# Altium integrated library CI.IntLib: 12 symbols
Pins are listed as number, name and electrical type; pins without a type are passive.

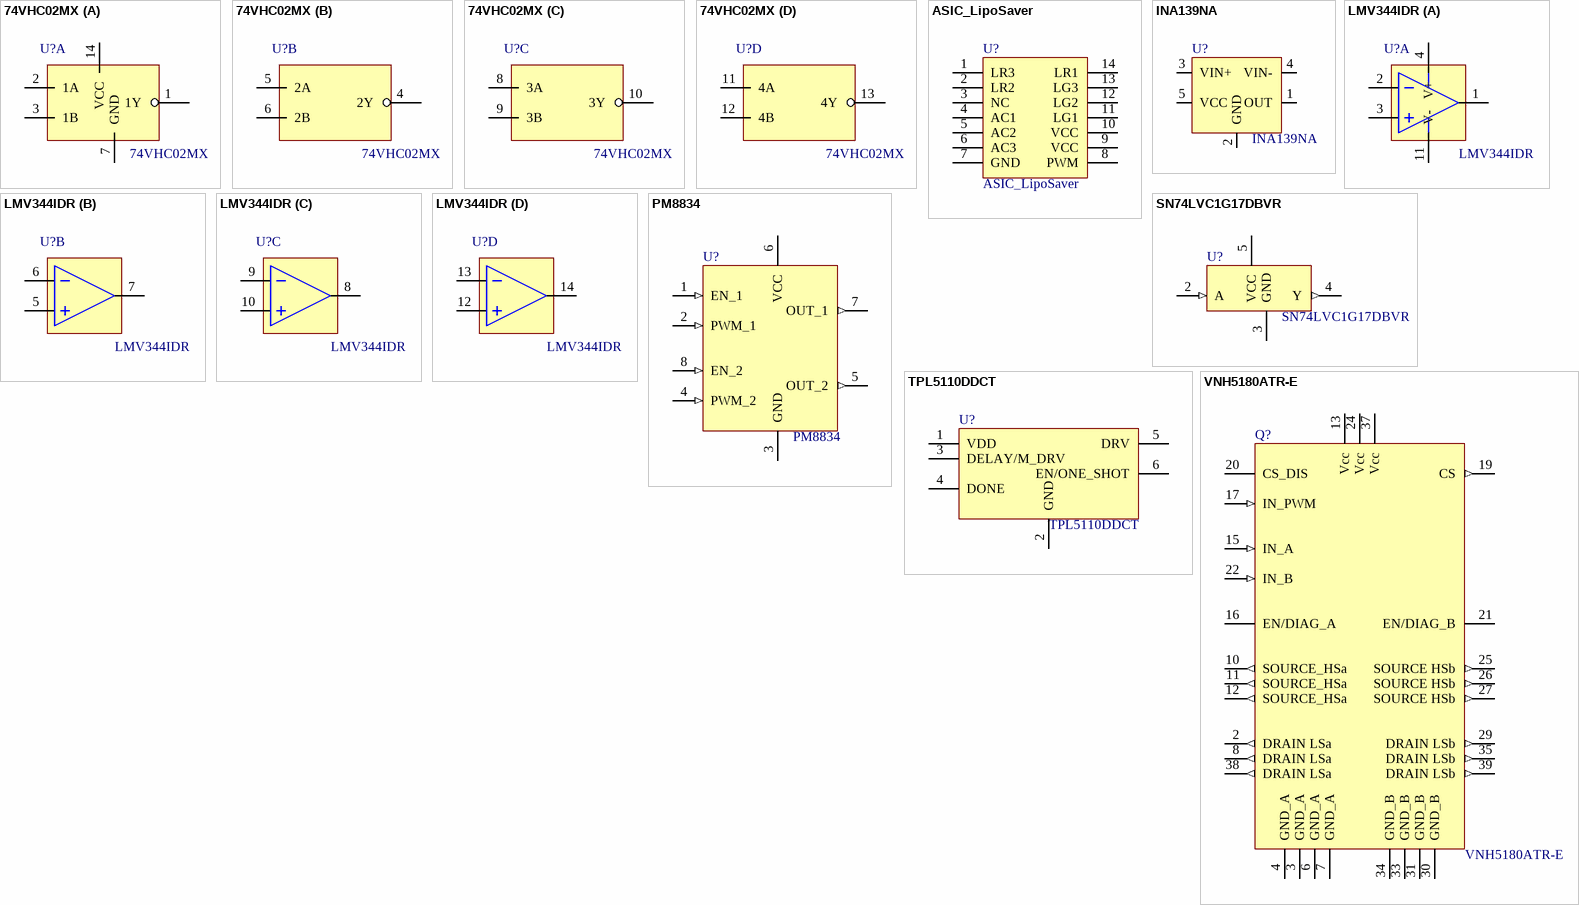
[diagram p0: symbols 74VHC02MX to VNH5180ATR-E]

## 74VHC02MX
designator U?
IC GATE NOR 4CH 2-INP 14SOIC; Manufacturer: ONSEMI; ComponentLink1URL: https://www.onsemi.com/pdf/datasheet/74vhc02-d.pdf; ComponentLink1Description: Datasheet; Manufacturer Part Number: 74VHC02MX; Supplier 1: Farnell; Supplier Part Number 1: 2453074; Supplier 2: JLCPCB; Supplier Part Number 2: C238963
footprint SOIC127P600X175-14N (SOIC, 14-Leads, Body 8,62x3,90mm, Pitch 1,27mm, IPC Medium Density)
part A pins: 1 1Y, 2 1A, 3 1B, 7 GND, 14 VCC
part B pins: 4 2Y, 5 2A, 6 2B
part C pins: 8 3A, 9 3B, 10 3Y
part D pins: 11 4A, 12 4B, 13 4Y

## ASIC_LipoSaver
designator U?
Specific IC for Lipo Saver (extracted; Manufacturer: LipoSaver; ComponentLink1URL: https://www.onsemi.com/pdf/datasheet/74vhc02-d.pdf; ComponentLink1Description: Datasheet; Manufacturer Part Number: ASIC_LipoSaver
footprint SOIC127P600X175-14N (SOIC, 14-Leads, Body 8,62x3,90mm, Pitch 1,27mm, IPC Medium Density)
pins: 1 LR3, 2 LR2, 3 NC, 4 AC1, 5 AC2, 6 AC3, 7 GND, 8 PWM, 9 VCC, 10 VCC, 11 LG1, 12 LG2, 13 LG3, 14 LR1

## INA139NA
designator U?
IC CURRENT MONITOR 0.5% SOT23-5; Manufacturer: Texas Instruments; Manufacturer Part Number: INA139NA; ComponentLink1URL: http://www.ti.com/lit/ds/symlink/ina139.pdf; ComponentLink1Description: Datasheet; Supplier 1: Farnell; Supplier Part Number 1: 3118123
footprint SOT23_95P280X145-5N (SOT23, 5-Leads, Body 3,1x3,2mm (max), Pitch 0,95mm, IPC Medium Densit)
pins: 1 OUT, 2 GND, 3 VIN+, 4 VIN-, 5 VCC

## LMV344IDR
designator U?
IC OPAMP GP 4 CIRCUIT 14SOIC; Manufacturer: TEXAS INSTRUMENTS; ComponentLink1URL: https://www.ti.com/lit/ds/symlink/lmv341.pdf; ComponentLink1Description: Datasheet; Manufacturer Part Number: LMV344IDR; Supplier 1: Farnell; Supplier Part Number 1: 3117230; Supplier 2: JLCPCB; Supplier Part Number 2: C181501
footprint SOIC127P600X175-14N (SOIC, 14-Leads, Body 8,62x3,90mm, Pitch 1,27mm, IPC Medium Density)
part A pins: 1 1OUT, 2 1IN-, 3 1IN+, 4 V+, 11 V-
part B pins: 5 2IN+, 6 2IN-, 7 2OUT
part C pins: 8 3OUT, 9 3IN-, 10 3IN+
part D pins: 12 4IN+, 13 4IN-, 14 4OUT

## PM8834
designator U?
IC MOSFET DVR 4A DUAL 8SOIC; Manufacturer: STMicroelectronics; ComponentLink1URL: http://www.st.com/content/ccc/resource/technical/document/datasheet/9a/22/3e/55/d3/f8/46/d5/CD00212712.pdf/files/CD00212712.pdf/jcr:content/translations/en.CD00212712.pdf; ComponentLink1Description: Datasheet; Manufacturer Part Number: PM8834; Supplier 1: Farnell; Supplier Part Number 1: 3129744
footprint SOIC127P600X175-8N (SOIC, 8-Leads, Body 4,90x3,90mm, Pitch 1,27mm, IPC Medium Density)
pins: 1 EN_1 (in), 2 PWM_1 (in), 3 GND (power), 4 PWM_2 (in), 5 OUT_2 (out), 6 VCC (power), 7 OUT_1 (out), 8 EN_2 (in)

## SN74LVC1G17DBVR
designator U?
IC BUF NON-INVERT 5.5V SOT23-5; Manufacturer: TEXAS INSTRUMENTS; ComponentLink1URL: https://www.ti.com/lit/ds/symlink/sn74lvc1g17.pdf?ts=1590614797325; ComponentLink1Description: Datasheet; Manufacturer Part Number: SN74LVC1G17DBVR; Supplier 1: Farnell; Supplier Part Number 1: 3119606
footprint SOT23_95P280X145-5N (SOT23, 5-Leads, Body 3,1x3,2mm (max), Pitch 0,95mm, IPC Medium Densit)
pins: 1 NC hidden, 2 A (in), 3 GND (power), 4 Y (out), 5 VCC (power)

## TPL5110DDCT
designator U?
IC OSC PROG TIMER TSOT23-6; Manufacturer: TEXAS INSTRUMENTS; ComponentLink1URL: https://www.ti.com/lit/ds/symlink/tpl5110.pdf; ComponentLink1Description: Datasheet; Manufacturer Part Number: TPL5110DDCT; Supplier 1: Farnell; Supplier Part Number 1: 3121221; Supplier 2: LCSC; Supplier Part Number 2: C125830
footprint SOT23_95P280X145-6N (SOT23, 6-Leads, Body 3,1x3,2mm (max), Pitch 0,95mm, IPC Medium Densit)
pins: 1 VDD, 2 GND, 3 DELAY/M_DRV, 4 DONE, 5 DRV, 6 EN/ONE_SHOT

## VNH5180ATR-E
designator Q?
IC MOTOR DRIVER PAR 36POWERSSO; Manufacturer: STMicroelectronics; Manufacturer Part Number: VNH5180ATR-E; ComponentLink1URL: http://www.st.com/content/ccc/resource/technical/document/datasheet/ce/72/6c/f3/65/47/45/b3/CD00264619.pdf/files/CD00264619.pdf/jcr:content/translations/en.CD00264619.pdf; ComponentLink1Description: Datasheet; Supplier 1: Farnell; Supplier Part Number 1: 2849833
footprint SSOP50P1030X247-36N (SSOP, 36-Leads, Body 10,30x7,50mm, Pitch 0,50mm, IPC Medium Density)
pins: 1 nc hidden, 2 DRAIN LSa (out), 3 GND_A (power), 4 GND_A (power), 5 nc hidden, 6 GND_A (power), 7 GND_A (power), 8 DRAIN LSa (out), 9 nc hidden, 10 SOURCE_HSa (out), 11 SOURCE_HSa (out), 12 SOURCE_HSa (out), 13 Vcc (power), 14 nc hidden, 15 IN_A (in), 16 EN/DIAG_A, 17 IN_PWM (in), 18 nc hidden, 19 CS (out), 20 CS_DIS, 21 EN/DIAG_B, 22 IN_B (in), 23 nc hidden, 24 Vcc (power), 25 SOURCE HSb (out), 26 SOURCE HSb (out), 27 SOURCE HSb (out), 28 nc hidden, 29 DRAIN LSb (out), 30 GND_B (power), 31 GND_B (power), 32 nc hidden, 33 GND_B (power), 34 GND_B (power), 35 DRAIN LSb (out), 36 nc hidden, 37 Vcc (power), 38 DRAIN LSa (out), 39 DRAIN LSb (out)


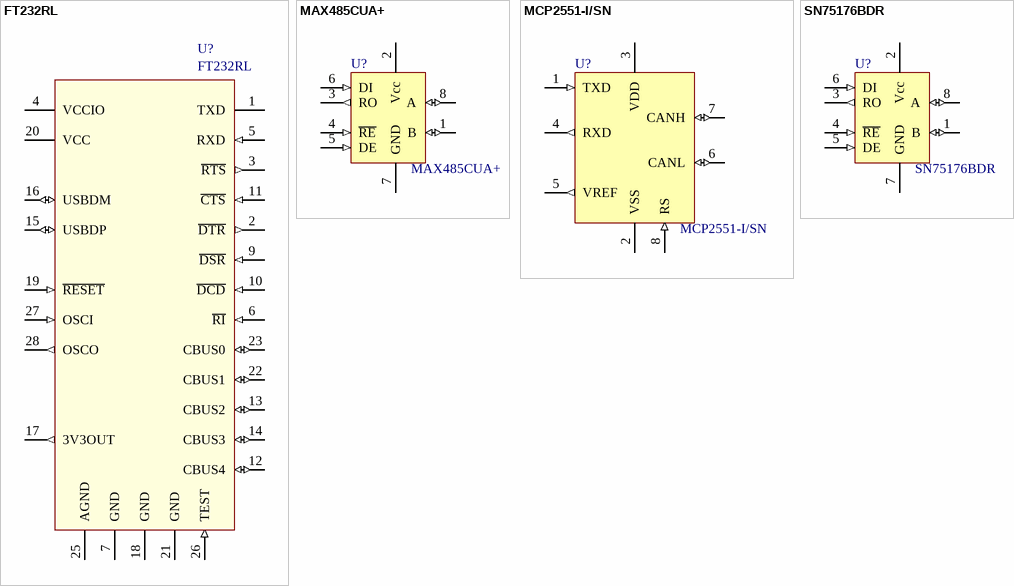
[diagram p1: symbols FT232RL to SN75176BDR]

## FT232RL
designator U?
USB VERS UART CMS SSOP28 232; Manufacturer: FTDI; Manufacturer Part Number: FT232RL; Supplier 1: Farnell; Supplier Part Number 1: 1146032; ComponentLink1Description: Datasheet; ComponentLink1URL: http://www.farnell.com/datasheets/2007793.pdf; Supplier 2: JLCPCB; Supplier Footprint 2: SSOP-28_5.3x10.2x0.65P; Supplier Part Number 2: C8690
footprint SSOP28
pins: 1 TXD, 2 ~{DTR} (out), 3 ~{RTS} (out), 4 VCCIO (power), 5 RXD (in), 6 ~{RI} (in), 7 GND (power), 9 ~{DSR} (in), 10 ~{DCD} (in), 11 ~{CTS} (in), 12 CBUS4 (io), 13 CBUS2 (io), 14 CBUS3 (io), 15 USBDP (io), 16 USBDM (io), 17 3V3OUT (out), 18 GND (power), 19 ~{RESET} (in), 20 VCC (power), 21 GND (power), 22 CBUS1 (io), 23 CBUS0 (io), 25 AGND (power), 26 TEST (in), 27 OSCI (in), 28 OSCO (out)

## MAX485CUA+
designator U?
IC TXRX RS485/RS422 8-UMAX; Manufacturer: Maxim Integrated; Manufacturer Part Number: MAX485CUA+; ComponentLink1URL: http://datasheets.maximintegrated.com/en/ds/MAX1487-MAX491.pdf; ComponentLink1Description: Datasheet; Supplier 1: Farnell; Supplier Part Number 1: 2511735
footprint MSOP-8
pins: 1 B (io) "Inverting Receiver Input and Inverting Driver Output", 2 Vcc (power) "Positive Supply: 4.75V   ≤  V  CC  ≤  5.25V", 3 RO (out), 4 ~{RE} (in), 5 DE (in), 6 DI (in), 7 GND (power), 8 A (io) "Noninverting Receiver Input and Noninverting Driver Output"

## MCP2551-I/SN
designator U?
IC TRANSCEIVER CAN HI-SPD 8-SOIC; Manufacturer: Microchip Technology; Manufacturer Part Number: MCP2551-I/SN; ComponentLink1Description: Datasheet; ComponentLink1URL: http://www.farnell.com/datasheets/657417.pdf; Supplier 1: Farnell; Supplier Part Number 1: 9758569; Supplier 2: JLCPCB; Supplier Part Number 2: C7439; Supplier Footprint 2: SOIC-8_3.9x4.9x1.27P
footprint SOIC127P600X175-8N (SOIC, 8-Leads, Body 4,90x3,90mm, Pitch 1,27mm, IPC Medium Density)
pins: 1 TXD (in), 2 VSS (power), 3 VDD (power), 4 RXD (out), 5 VREF (out), 6 CANL (io), 7 CANH (io), 8 RS (in)

## SN75176BDR
designator U?
IC TXRX RS485/RS422 SOIC-8; Manufacturer: Texas Instruments; Manufacturer Part Number: SN75176BDR; ComponentLink1URL: https://www.ti.com/lit/ds/symlink/sn75176b.pdf?ts=1590921379605; ComponentLink1Description: Datasheet; Supplier 1: Farnell; Supplier 2: JLCPCB; Supplier Part Number 2: C7063; Supplier Part Number 1: 3007055; Supplier Footprint 2: SOIC-8_3.9x4.9x1.27P
footprint SOIC127P600X175-8N (SOIC, 8-Leads, Body 4,90x3,90mm, Pitch 1,27mm, IPC Medium Density)
pins: 1 B (io) "Inverting Receiver Input and Inverting Driver Output", 2 Vcc (power) "Positive Supply: 4.75V   ≤  V  CC  ≤  5.25V", 3 RO (out), 4 ~{RE} (in), 5 DE (in), 6 DI (in), 7 GND (power), 8 A (io) "Noninverting Receiver Input and Noninverting Driver Output"